# EAGLE library part 6250XX21621_62502621621 (library WR-BHD)
WR-BHD 2.00 mm Male Characteristics Rated current: 2 A Working Voltage: 250 V UL approval: E323964 UL94-V0 Applications Industrial Production lines Details see: www.we-online.com/components/products/WTB_WR_BHD_BOX_HEADER_2_00MM_MALE Updated by Ella 2026-09-16 2026 (C) Würth Elektronik
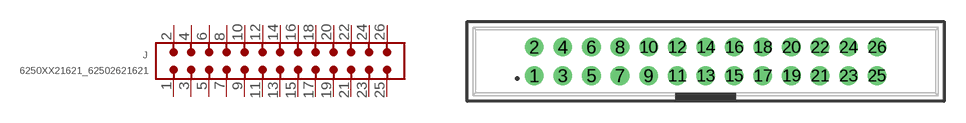
[diagram p22: symbol with the pads of 62502621621; footprint 62502621621]

Designator prefix J

## 6250XX21621_62502621621 (CATEGORY: Connectors; DATASHEET: https://www.we-online.com/redexpert/spec/62502621621?ae; GENDER: Male; LENGTH: 33.2 mm; MANUFACTURER: Würth Elektronik; MOUNT: THT; MPN: 62502621621; OPERATING_TEMPERATURE: -40 °C up to +125 °C; PACKAGING: Tray; PINS: 26; PITCH: 2mm; RATED_CURRENT: 2 A; SIZE: THT Straight; TYPE: Straight; VALUE: 62502621621)  [62502621621]
1  1  pas
2  2  pas
3  3  pas
4  4  pas
5  5  pas
6  6  pas
7  7  pas
8  8  pas
9  9  pas
10  10  pas
11  11  pas
12  12  pas
13  13  pas
14  14  pas
15  15  pas
16  16  pas
17  17  pas
18  18  pas
19  19  pas
20  20  pas
21  21  pas
22  22  pas
23  23  pas
24  24  pas
25  25  pas
26  26  pas

## Footprint 62502621621 (pad centres in mm)
WR-BHD Wire-to-Board Connectors, 2mm, Male, THT Straight, 26pins
drill 0.8: 1 -12,-1; 2 -12,1; 3 -10,-1; 4 -10,1; 5 -8,-1; 6 -8,1; 7 -6,-1; 8 -6,1; 9 -4,-1; 10 -4,1; 11 -2,-1; 12 -2,1; 13 0,-1; 14 0,1; 15 2,-1; 16 2,1; 17 4,-1; 18 4,1; 19 6,-1; 20 6,1; 21 8,-1; 22 8,1; 23 10,-1; 24 10,1; 25 12,-1; 26 12,1